# EAGLE library part SI4542DY (library jmolterLib)
SI4542DY For lvc
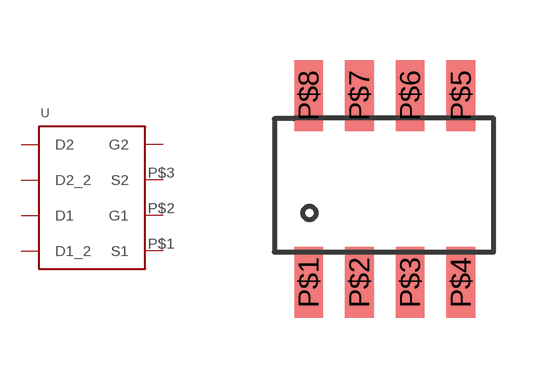
[diagram p3: symbol with the pads of 8-SOIC; footprint 8-SOIC]

Designator prefix -

## SI4542DY  [8-SOIC]
P$1  S1
P$2  G1
P$3  S2
P$4  G2
P$5  D2
P$6  D2_2
P$7  D1
P$8  D1_2

## Footprint 8-SOIC (pad centres in mm)
smd 0.72 x 1.78: P$1 0.36,0.89; P$2 1.63,0.89; P$3 2.9,0.89; P$4 4.17,0.89; P$5 4.17,5.57; P$6 2.9,5.57; P$7 1.63,5.57; P$8 0.36,5.57